# EAGLE library part PROGHEADERMINI (library con-espprog)
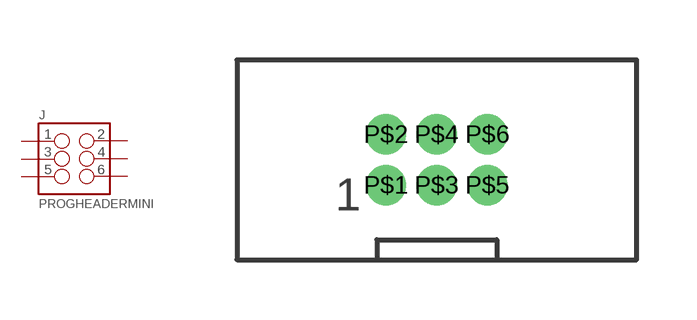
[diagram p0: symbol with the pads of 6PINHEADER; footprint 6PINHEADER]

Designator prefix J

## PROGHEADERMINI  [6PINHEADER]
P$1  1
P$2  2
P$3  3
P$4  4
P$5  5
P$6  6

## Footprint 6PINHEADER (pad centres in mm)
drill 0.5 pad 0.813: P$1 -1.27,-0.635; P$2 -1.27,0.635; P$3 0,-0.635; P$4 0,0.635; P$5 1.27,-0.635; P$6 1.27,0.635